# Altium integrated library NSC Switcher.IntLib: 867 symbols (part 19 of 21)
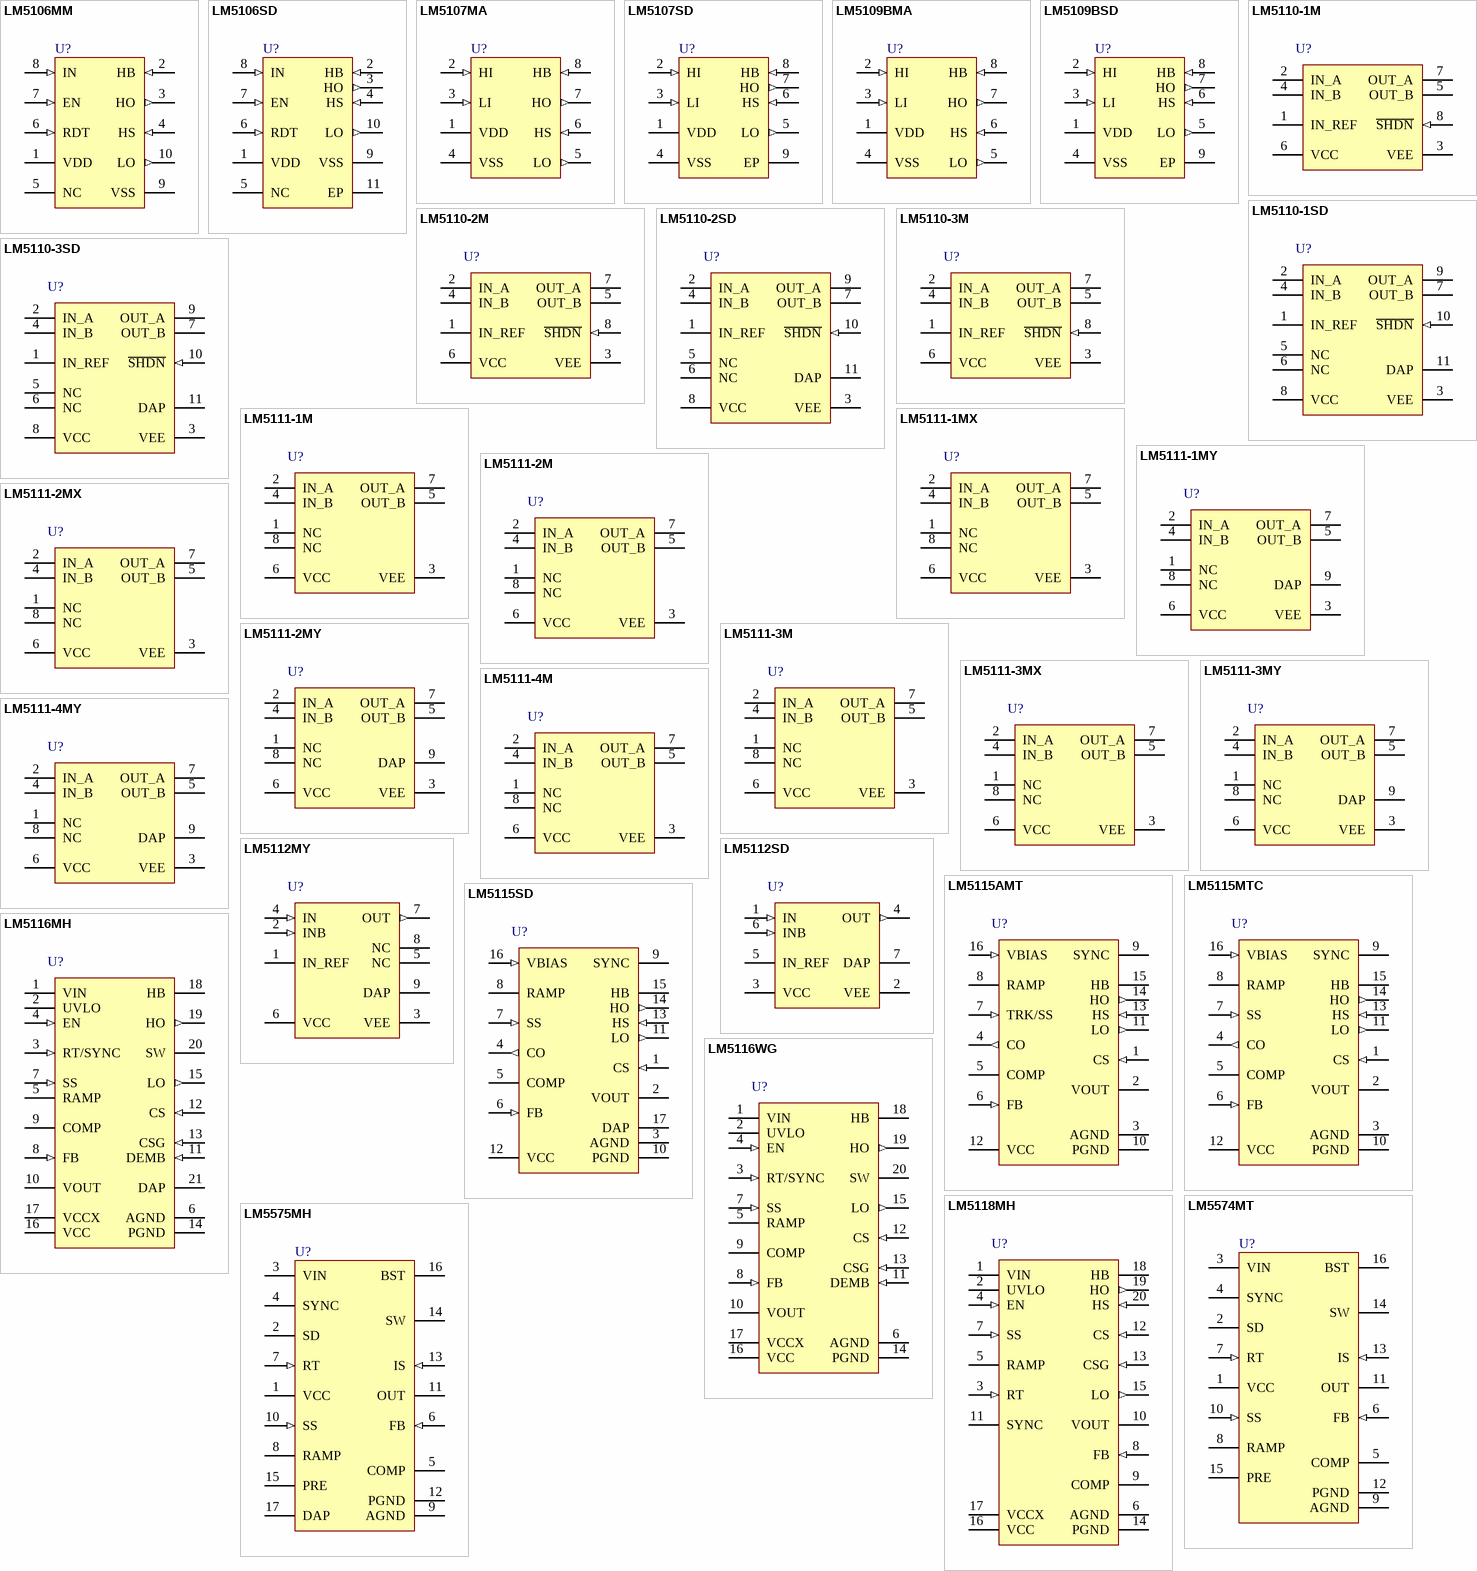
[diagram p44: symbols LM5106MM to LM5575MH]

## LM5574MT
designator U?
SIMPLE SWITCHER 75V, 0.5A Step-Down Switching Regulator; PartNumber: LM5574MT; Manufacturer: National Semiconductor; PackageTopMarking: NSUZXYTT*LM5574*MT; Published: 4-Dec-2008; PackageVersion: revD, Jun-2003; PackageReference: MTC16; Publisher: Altium Limited; PackageDescription: Molded TSSOP, Jedec, 5 x 4.4 x 0.9mm Body, 16 Lead, 0.65mm Pitch; CompType: Switcher; RoHS: O; PinCount: 16; DigiKeyPartNumber: LM5574MT-ND; Code_JEDEC: MO-153-AB; ComponentLink1Description: LM5574 Datasheet; ComponentLink1URL: http://www.national.com/ds/LM/LM5574.pdf; ComponentLink2Description: LM5574 Web Page; ComponentLink2URL: http://www.national.com/pf/LM/LM5574.html; ComponentLink3Description: MTC16 Package Page; ComponentLink3URL: http://www.national.com/packaging/folders/mtc16.html
footprint MTC16_N (TSOP, 16-Leads, Body 5x4.4mm, Pitch 0.65mm, IPC Medium Density)
footprint MTC16_L (TSOP, 16-Leads, Body 5x4.4mm, Pitch 0.65mm, IPC High Density)
footprint MTC16_M (TSOP, 16-Leads, Body 5x4.4mm, Pitch 0.65mm, IPC Low Density)
pins: 1 VCC (power), 2 SD, 3 VIN (power), 4 SYNC, 5 COMP, 6 FB (in), 7 RT (in), 8 RAMP, 9 AGND (power), 10 SS (in), 11 OUT (power), 12 PGND (power), 13 IS (in), 14 SW (power), 15 PRE (oc), 16 BST

## LM5575MH
designator U?
SIMPLE SWITCHER 75V, 1.5A Step-Down Switching Regulator; PartNumber: LM5575MH; Manufacturer: National Semiconductor; PackageTopMarking: NSUZXYTT*LM5575*MH; Published: 4-Dec-2008; PackageVersion: revA, Apr-2003; PackageReference: MXA16A; Publisher: Altium Limited; PackageDescription: Molded TSSOP, Jedec, Exposed Pad, 5.0 x 4.4 x 0.9mm Body,16 Lead, 0.65mm Pitch; CompType: Switcher; RoHS: Y; PinCount: 16; DigiKeyPartNumber: LM5575MH-ND; Code_JEDEC: MO-153-ABT; ComponentLink1Description: LM5575 Datasheet; ComponentLink1URL: http://www.national.com/ds/LM/LM5575.pdf; ComponentLink2Description: LM5575 Web Page; ComponentLink2URL: http://www.national.com/pf/LM/LM5575.html; ComponentLink3Description: MXA16A Package Page; ComponentLink3URL: http://www.national.com/packaging/folders/mxa16a.html
footprint MXA16A_N (TSOP, 16-Leads, Body 5x4.4mm, Pitch 0.65mm, Exposed Pad, IPC Medium Density)
footprint MXA16A_L (TSOP, 16-Leads, Body 5x4.4mm, Pitch 0.65mm, Exposed Pad, IPC High Density)
footprint MXA16A_M (TSOP, 16-Leads, Body 5x4.4mm, Pitch 0.65mm, Exposed Pad, IPC Low Density)
pins: 1 VCC (power), 2 SD, 3 VIN (power), 4 SYNC, 5 COMP, 6 FB (in), 7 RT (in), 8 RAMP, 9 AGND (power), 10 SS (in), 11 OUT (power), 12 PGND (power), 13 IS (in), 14 SW (power), 15 PRE (oc), 16 BST, 17 DAP (power)

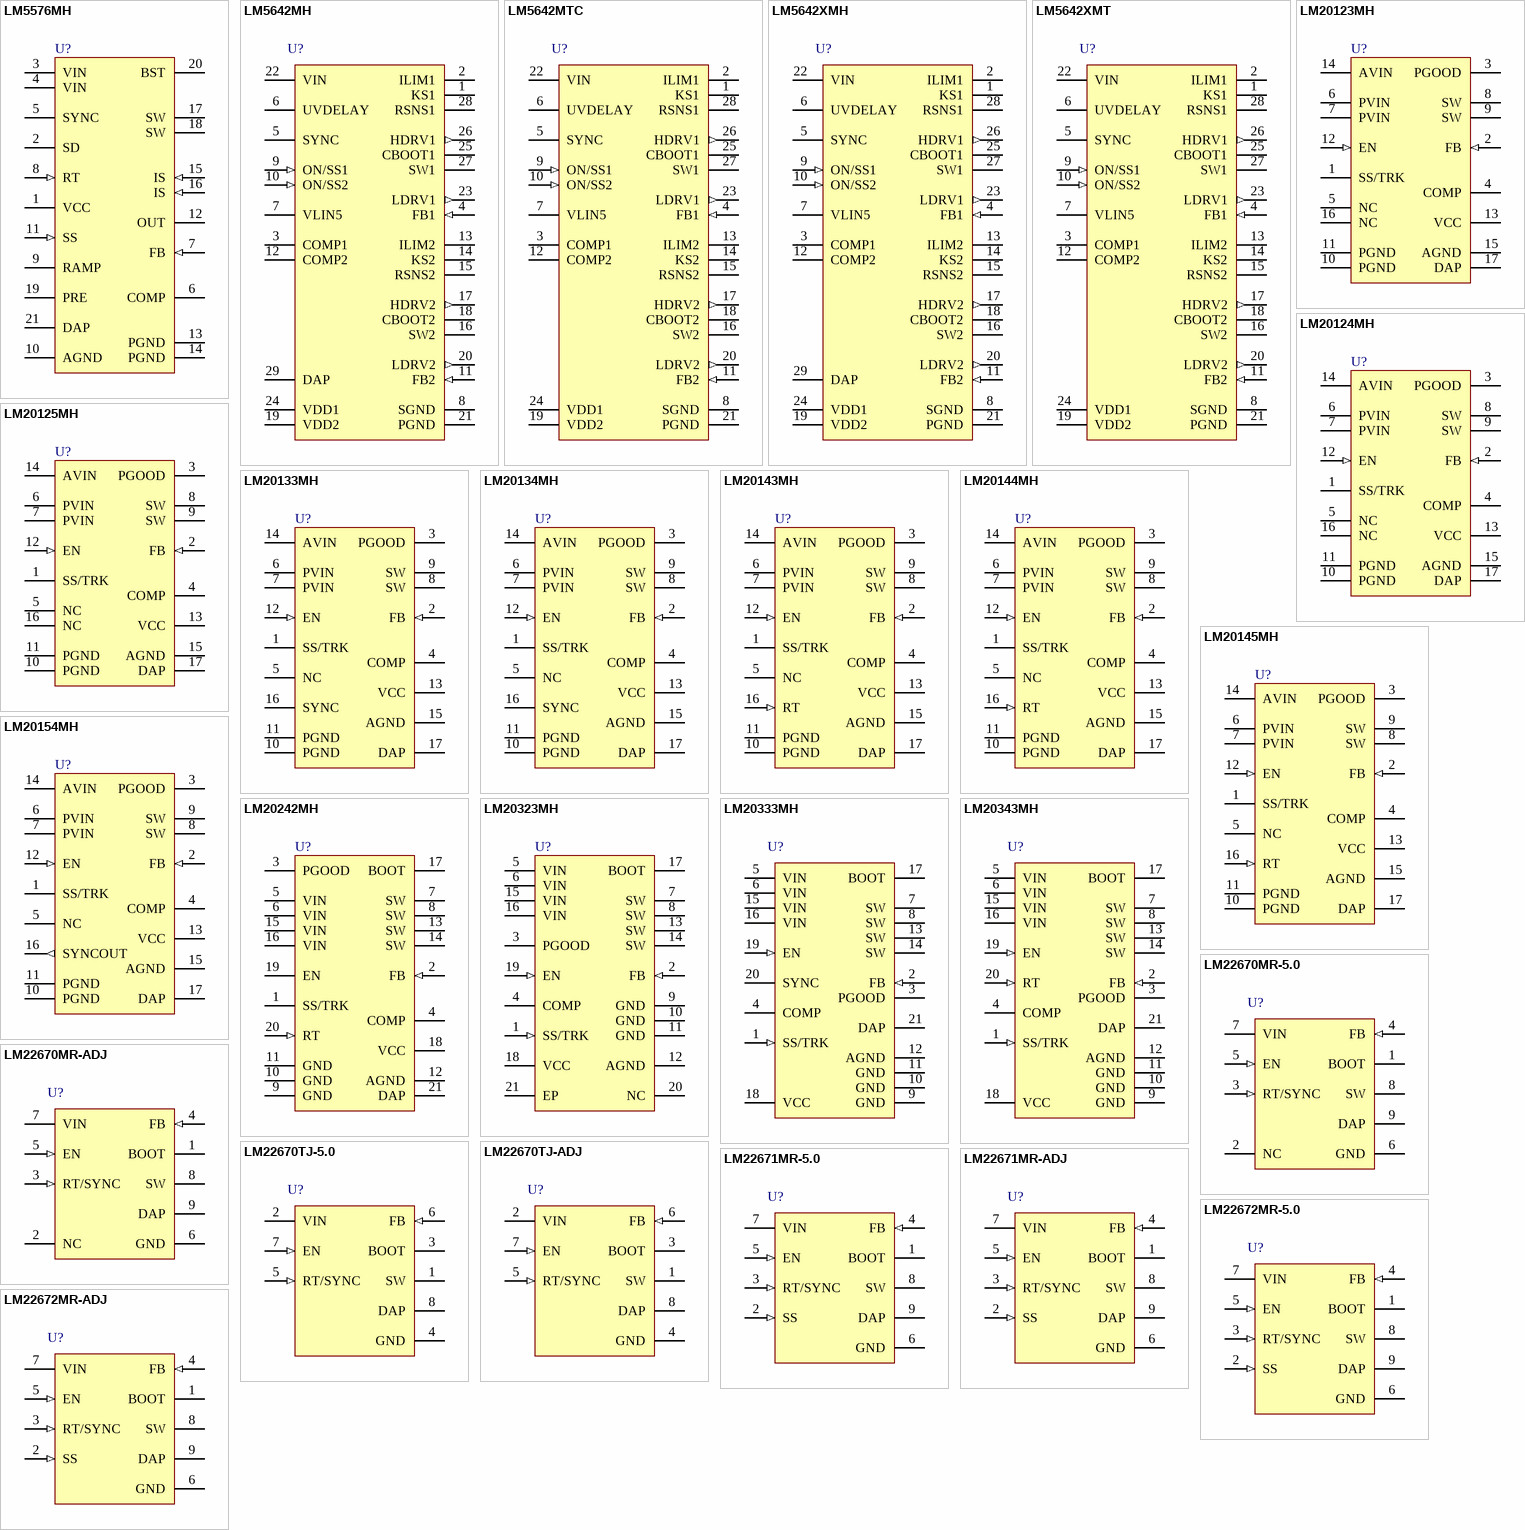
[diagram p22: symbols LM5576MH to LM22672MR-ADJ]

## LM5576MH
designator U?
SIMPLE SWITCHER 75V, 3A Step-Down Switching Regulator; PartNumber: LM5576MH; Manufacturer: National Semiconductor; PackageTopMarking: NSUZXYTT*LM5576*MH; Published: 4-Dec-2008; PackageVersion: revC, Jul-2006; PackageReference: MXA20A; Publisher: Altium Limited; PackageDescription: Molded TSSOP, Jedec, 6.5 x 4.4 x 0.9mm Body, 20 Lead, 0.65mm Pitch, Exposed Pad; CompType: Switcher; RoHS: Y; PinCount: 20; DigiKeyPartNumber: LM5576MH-ND; Code_JEDEC: MO-153-ACT; ComponentLink1Description: LM5576 Datasheet; ComponentLink1URL: http://www.national.com/ds/LM/LM5576.pdf; ComponentLink2Description: LM5576 Web Page; ComponentLink2URL: http://www.national.com/pf/LM/LM5576.html; ComponentLink3Description: MXA20A Package Page; ComponentLink3URL: http://www.national.com/packaging/folders/mxa20a.html
footprint MXA20A_N (TSOP, 20-Leads, Body 6.5x4.4mm, Pitch 0.65mm, Exposed Pad, IPC Medium Density)
footprint MXA20A_L (TSOP, 20-Leads, Body 6.5x4.4mm, Pitch 0.65mm, Exposed Pad, IPC High Density)
footprint MXA20A_M (TSOP, 20-Leads, Body 6.5x4.4mm, Pitch 0.65mm, Exposed Pad, IPC Low Density)
pins: 1 VCC (power), 2 SD, 3 VIN (power), 4 VIN (power), 5 SYNC, 6 COMP, 7 FB (in), 8 RT (in), 9 RAMP, 10 AGND (power), 11 SS (in), 12 OUT (power), 13 PGND (power), 14 PGND (power), 15 IS (in), 16 IS (in), 17 SW (power), 18 SW (power), 19 PRE (oc), 20 BST, 21 DAP (power)

## LM5642MH
designator U?
High Voltage, Dual Synchronous Buck Converter with Oscillator Synchronization; PartNumber: LM5642MH; Manufacturer: National Semiconductor; CompType: Switcher; PackageTopMarking: NSUZXYTT*LM5642*MH; Published: 4-Dec-2008; PackageVersion: revD, Oct-2003; PackageReference: MXA28A; Publisher: Altium Limited; PackageDescription: Molded TSSOP, Jedec, 9.7 x 4.4 x 0.9mm Body, 28 Lead, 0.65mm Pitch, Exposed Pad; RoHS: Y; PinCount: 28; DigiKeyPartNumber: LM5642MH-ND; Code_JEDEC: MO-153-AET; ComponentLink1Description: LM5642 Datasheet; ComponentLink1URL: http://www.national.com/ds/LM/LM5642.pdf; ComponentLink2Description: LM5642 Web Page; ComponentLink2URL: http://www.national.com/pf/LM/LM5642.html; ComponentLink3Description: MXA28A Package Drawing; ComponentLink3URL: http://www.national.com/packaging/folders/mxa28a.html
footprint MXA28A_N (TSOP, 28-Leads, Body 9.7x4.4mm, Pitch 0.65mm, Exposed Pad, IPC Medium Density)
footprint MXA28A_L (TSOP, 28-Leads, Body 9.7x4.4mm, Pitch 0.65mm, Exposed Pad, IPC High Density)
footprint MXA28A_M (TSOP, 28-Leads, Body 9.7x4.4mm, Pitch 0.65mm, Exposed Pad, IPC Low Density)
pins: 1 KS1, 2 ILIM1, 3 COMP1, 4 FB1 (in), 5 SYNC, 6 UVDELAY, 7 VLIN5 (power), 8 SGND (power), 9 ON/SS1 (in), 10 ON/SS2 (in), 11 FB2 (in), 12 COMP2, 13 ILIM2, 14 KS2, 15 RSNS2, 16 SW2 (power), 17 HDRV2 (out), 18 CBOOT2, 19 VDD2 (power), 20 LDRV2 (out), 21 PGND (power), 22 VIN (power), 23 LDRV1 (out), 24 VDD1 (power), 25 CBOOT1, 26 HDRV1 (out), 27 SW1 (power), 28 RSNS1, 29 DAP (power)

## LM5642MTC
designator U?
High Voltage, Dual Synchronous Buck Converter with Oscillator Synchronization; PartNumber: LM5642MTC; Manufacturer: National Semiconductor; CompType: Switcher; PackageTopMarking: NSUZXYTT*LM5642*MTC; Published: 4-Dec-2008; PackageVersion: revD, Jan-2005; PackageReference: MTC28; Publisher: Altium Limited; PackageDescription: Molded TSSOP, Jedec, 9.7 x 4.4 x 0.9mm Body, 28 Lead, 0.65mm Pitch; RoHS: O; PinCount: 28; DigiKeyPartNumber: LM5642MTC-ND; Code_JEDEC: MO-153-AE; ComponentLink1Description: LM5642 Datasheet; ComponentLink1URL: http://www.national.com/ds/LM/LM5642.pdf; ComponentLink2Description: LM5642 Web Page; ComponentLink2URL: http://www.national.com/pf/LM/LM5642.html; ComponentLink3Description: MTC28 Package Drawing; ComponentLink3URL: http://www.national.com/packaging/folders/mtc28.html
footprint MTC28_N (TSOP, 28-Leads, Body 9.7x4.4mm, Pitch 0.65mm, IPC Medium Density)
footprint MTC28_L (TSOP, 28-Leads, Body 9.7x4.4mm, Pitch 0.65mm, IPC High Density)
footprint MTC28_M (TSOP, 28-Leads, Body 9.7x4.4mm, Pitch 0.65mm, IPC Low Density)
pins: 1 KS1, 2 ILIM1, 3 COMP1, 4 FB1 (in), 5 SYNC, 6 UVDELAY, 7 VLIN5 (power), 8 SGND (power), 9 ON/SS1 (in), 10 ON/SS2 (in), 11 FB2 (in), 12 COMP2, 13 ILIM2, 14 KS2, 15 RSNS2, 16 SW2 (power), 17 HDRV2 (out), 18 CBOOT2, 19 VDD2 (power), 20 LDRV2 (out), 21 PGND (power), 22 VIN (power), 23 LDRV1 (out), 24 VDD1 (power), 25 CBOOT1, 26 HDRV1 (out), 27 SW1 (power), 28 RSNS1

## LM5642XMH
designator U?
High Voltage, Dual Synchronous Buck Converter with Oscillator Synchronization; PartNumber: LM5642XMH; Manufacturer: National Semiconductor; CompType: Switcher; PackageTopMarking: NSUZXYTT*LM5642*XMH; Published: 4-Dec-2008; PackageVersion: revD, Oct-2003; PackageReference: MXA28A; Publisher: Altium Limited; PackageDescription: Molded TSSOP, Jedec, 9.7 x 4.4 x 0.9mm Body, 28 Lead, 0.65mm Pitch, Exposed Pad; RoHS: Y; PinCount: 28; DigiKeyPartNumber: LM5642XMH-ND; Code_JEDEC: MO-153-AET; ComponentLink1Description: LM5642X Datasheet; ComponentLink1URL: http://www.national.com/ds/LM/LM5642X.pdf; ComponentLink2Description: LM5642X Web Page; ComponentLink2URL: http://www.national.com/pf/LM/LM5642X.html; ComponentLink3Description: MXA28A Package Drawing; ComponentLink3URL: http://www.national.com/packaging/folders/mxa28a.html
footprint MXA28A_N (TSOP, 28-Leads, Body 9.7x4.4mm, Pitch 0.65mm, Exposed Pad, IPC Medium Density)
footprint MXA28A_L (TSOP, 28-Leads, Body 9.7x4.4mm, Pitch 0.65mm, Exposed Pad, IPC High Density)
footprint MXA28A_M (TSOP, 28-Leads, Body 9.7x4.4mm, Pitch 0.65mm, Exposed Pad, IPC Low Density)
pins: 1 KS1, 2 ILIM1, 3 COMP1, 4 FB1 (in), 5 SYNC, 6 UVDELAY, 7 VLIN5 (power), 8 SGND (power), 9 ON/SS1 (in), 10 ON/SS2 (in), 11 FB2 (in), 12 COMP2, 13 ILIM2, 14 KS2, 15 RSNS2, 16 SW2 (power), 17 HDRV2 (out), 18 CBOOT2, 19 VDD2 (power), 20 LDRV2 (out), 21 PGND (power), 22 VIN (power), 23 LDRV1 (out), 24 VDD1 (power), 25 CBOOT1, 26 HDRV1 (out), 27 SW1 (power), 28 RSNS1, 29 DAP (power)

## LM5642XMT
designator U?
High Voltage, Dual Synchronous Buck Converter with Oscillator Synchronization; PartNumber: LM5642XMT; Manufacturer: National Semiconductor; CompType: Switcher; PackageTopMarking: NSUZXYTT*LM5642*XMT; Published: 4-Dec-2008; PackageVersion: revD, Jan-2005; PackageReference: MTC28; Publisher: Altium Limited; PackageDescription: Molded TSSOP, Jedec, 9.7 x 4.4 x 0.9mm Body, 28 Lead, 0.65mm Pitch; RoHS: Y; PinCount: 28; DigiKeyPartNumber: LM5642XMT-ND; Code_JEDEC: MO-153-AE; ComponentLink1Description: LM5642X Datasheet; ComponentLink1URL: http://www.national.com/ds/LM/LM5642X.pdf; ComponentLink2Description: LM5642X Web Page; ComponentLink2URL: http://www.national.com/pf/LM/LM5642X.html; ComponentLink3Description: MTC28 Package Drawing; ComponentLink3URL: http://www.national.com/packaging/folders/mtc28.html
footprint MTC28_N (TSOP, 28-Leads, Body 9.7x4.4mm, Pitch 0.65mm, IPC Medium Density)
footprint MTC28_L (TSOP, 28-Leads, Body 9.7x4.4mm, Pitch 0.65mm, IPC High Density)
footprint MTC28_M (TSOP, 28-Leads, Body 9.7x4.4mm, Pitch 0.65mm, IPC Low Density)
pins: 1 KS1, 2 ILIM1, 3 COMP1, 4 FB1 (in), 5 SYNC, 6 UVDELAY, 7 VLIN5 (power), 8 SGND (power), 9 ON/SS1 (in), 10 ON/SS2 (in), 11 FB2 (in), 12 COMP2, 13 ILIM2, 14 KS2, 15 RSNS2, 16 SW2 (power), 17 HDRV2 (out), 18 CBOOT2, 19 VDD2 (power), 20 LDRV2 (out), 21 PGND (power), 22 VIN (power), 23 LDRV1 (out), 24 VDD1 (power), 25 CBOOT1, 26 HDRV1 (out), 27 SW1 (power), 28 RSNS1

## LM20123MH
designator U?
3A, 1.5MHz PowerWise Synchronous Buck  Regulator; PartNumber: LM20123MH; Manufacturer: National Semiconductor; CompType: Switcher; PackageTopMarking: NSUZXYTT*20123*MH; Published: 4-Dec-2008; PackageVersion: revA, Apr-2003; PackageReference: MXA16A; Publisher: Altium Limited; PackageDescription: Molded TSSOP, Jedec, Exposed Pad, 5.0 x 4.4 x 0.9mm Body,16 Lead, 0.65mm Pitch; RoHS: Y; PinCount: 16; DigiKeyPartNumber: LM20123MH-ND; Code_JEDEC: MO-153-ABT; ComponentLink1Description: LM20123 Datasheet; ComponentLink1URL: http://www.national.com/ds/LM/LM20123.pdf; ComponentLink2Description: LM20123 Web Page; ComponentLink2URL: http://www.national.com/pf/LM/LM20123.html; ComponentLink3Description: MXA16A Package Page; ComponentLink3URL: http://www.national.com/packaging/folders/mxa16a.html
footprint MXA16A_N (TSOP, 16-Leads, Body 5x4.4mm, Pitch 0.65mm, Exposed Pad, IPC Medium Density)
footprint MXA16A_L (TSOP, 16-Leads, Body 5x4.4mm, Pitch 0.65mm, Exposed Pad, IPC High Density)
footprint MXA16A_M (TSOP, 16-Leads, Body 5x4.4mm, Pitch 0.65mm, Exposed Pad, IPC Low Density)
pins: 1 SS/TRK, 2 FB (in), 3 PGOOD (oc), 4 COMP, 5 NC, 6 PVIN (power), 7 PVIN (power), 8 SW (power), 9 SW (power), 10 PGND (power), 11 PGND (power), 12 EN (in), 13 VCC (power), 14 AVIN (power), 15 AGND (power), 16 NC, 17 DAP (power)

## LM20124MH
designator U?
4A, 1MHz PowerWise Synchronous Buck  Regulator; PartNumber: LM20124MH; Manufacturer: National Semiconductor; CompType: Switcher; PackageTopMarking: NSUZXYTT*20124*MH; Published: 4-Dec-2008; PackageVersion: revA, Apr-2003; PackageReference: MXA16A; Publisher: Altium Limited; PackageDescription: Molded TSSOP, Jedec, Exposed Pad, 5.0 x 4.4 x 0.9mm Body,16 Lead, 0.65mm Pitch; RoHS: Y; PinCount: 16; DigiKeyPartNumber: LM20124MH-ND; Code_JEDEC: MO-153-ABT; ComponentLink1Description: LM20124 Datasheet; ComponentLink1URL: http://www.national.com/ds/LM/LM20124.pdf; ComponentLink2Description: LM20124 Web Page; ComponentLink2URL: http://www.national.com/pf/LM/LM20124.html; ComponentLink3Description: MXA16A Package Page; ComponentLink3URL: http://www.national.com/packaging/folders/mxa16a.html
footprint MXA16A_N (TSOP, 16-Leads, Body 5x4.4mm, Pitch 0.65mm, Exposed Pad, IPC Medium Density)
footprint MXA16A_L (TSOP, 16-Leads, Body 5x4.4mm, Pitch 0.65mm, Exposed Pad, IPC High Density)
footprint MXA16A_M (TSOP, 16-Leads, Body 5x4.4mm, Pitch 0.65mm, Exposed Pad, IPC Low Density)
pins: 1 SS/TRK, 2 FB (in), 3 PGOOD (oc), 4 COMP, 5 NC, 6 PVIN (power), 7 PVIN (power), 8 SW (power), 9 SW (power), 10 PGND (power), 11 PGND (power), 12 EN (in), 13 VCC (power), 14 AVIN (power), 15 AGND (power), 16 NC, 17 DAP (power)

## LM20125MH
designator U?
5A, 500kHz PowerWise Synchronous Buck  Regulator; PartNumber: LM20125MH; Manufacturer: National Semiconductor; CompType: Switcher; PackageTopMarking: NSUZXYTT*20125*MH; Published: 4-Dec-2008; PackageVersion: revA, Apr-2003; PackageReference: MXA16A; Publisher: Altium Limited; PackageDescription: Molded TSSOP, Jedec, Exposed Pad, 5.0 x 4.4 x 0.9mm Body,16 Lead, 0.65mm Pitch; RoHS: Y; PinCount: 16; DigiKeyPartNumber: LM20125MH-ND; Code_JEDEC: MO-153-ABT; ComponentLink1Description: LM20125 Datasheet; ComponentLink1URL: http://www.national.com/ds/LM/LM20125.pdf; ComponentLink2Description: LM20125 Web Page; ComponentLink2URL: http://www.national.com/pf/LM/LM20125.html; ComponentLink3Description: MXA16A Package Page; ComponentLink3URL: http://www.national.com/packaging/folders/mxa16a.html
footprint MXA16A_N (TSOP, 16-Leads, Body 5x4.4mm, Pitch 0.65mm, Exposed Pad, IPC Medium Density)
footprint MXA16A_L (TSOP, 16-Leads, Body 5x4.4mm, Pitch 0.65mm, Exposed Pad, IPC High Density)
footprint MXA16A_M (TSOP, 16-Leads, Body 5x4.4mm, Pitch 0.65mm, Exposed Pad, IPC Low Density)
pins: 1 SS/TRK, 2 FB (in), 3 PGOOD (oc), 4 COMP, 5 NC, 6 PVIN (power), 7 PVIN (power), 8 SW (power), 9 SW (power), 10 PGND (power), 11 PGND (power), 12 EN (in), 13 VCC (power), 14 AVIN (power), 15 AGND (power), 16 NC, 17 DAP (power)

## LM20133MH
designator U?
3A, PowerWise Synchronous Buck Regulator with Input Synchronization; PartNumber: LM20133MH; Manufacturer: National Semiconductor; CompType: Switcher; PackageTopMarking: NSUZXYTT*20133*MH; Published: 4-Dec-2008; PackageVersion: revA, Apr-2003; PackageReference: MXA16A; Publisher: Altium Limited; PackageDescription: Molded TSSOP, Jedec, Exposed Pad, 5.0 x 4.4 x 0.9mm Body,16 Lead, 0.65mm Pitch; RoHS: Y; PinCount: 16; DigiKeyPartNumber: LM20133MH-ND; Code_JEDEC: MO-153-ABT; ComponentLink1Description: LM20133 Datasheet; ComponentLink1URL: http://www.national.com/ds/LM/LM20133.pdf; ComponentLink2Description: LM20133 Web Page; ComponentLink2URL: http://www.national.com/pf/LM/LM20133.html; ComponentLink3Description: MXA16A Package Page; ComponentLink3URL: http://www.national.com/packaging/folders/mxa16a.html
footprint MXA16A_N (TSOP, 16-Leads, Body 5x4.4mm, Pitch 0.65mm, Exposed Pad, IPC Medium Density)
footprint MXA16A_L (TSOP, 16-Leads, Body 5x4.4mm, Pitch 0.65mm, Exposed Pad, IPC High Density)
footprint MXA16A_M (TSOP, 16-Leads, Body 5x4.4mm, Pitch 0.65mm, Exposed Pad, IPC Low Density)
pins: 1 SS/TRK, 2 FB (in), 3 PGOOD (oc), 4 COMP, 5 NC, 6 PVIN (power), 7 PVIN (power), 8 SW (power), 9 SW (power), 10 PGND (power), 11 PGND (power), 12 EN (in), 13 VCC (power), 14 AVIN (power), 15 AGND (power), 16 SYNC, 17 DAP (power)

## LM20134MH
designator U?
4A, PowerWise Synchronous Buck  Regulator with Input Synchronization; PartNumber: LM20134MH; Manufacturer: National Semiconductor; CompType: Switcher; PackageTopMarking: NSUZXYTT*20134*MH; Published: 4-Dec-2008; PackageVersion: revA, Apr-2003; PackageReference: MXA16A; Publisher: Altium Limited; PackageDescription: Molded TSSOP, Jedec, Exposed Pad, 5.0 x 4.4 x 0.9mm Body,16 Lead, 0.65mm Pitch; RoHS: Y; PinCount: 16; DigiKeyPartNumber: LM20134MH-ND; Code_JEDEC: MO-153-ABT; ComponentLink1Description: LM20134 Datasheet; ComponentLink1URL: http://www.national.com/ds/LM/LM20134.pdf; ComponentLink2Description: LM20134 Web Page; ComponentLink2URL: http://www.national.com/pf/LM/LM20134.html; ComponentLink3Description: MXA16A Package Page; ComponentLink3URL: http://www.national.com/packaging/folders/mxa16a.html
footprint MXA16A_N (TSOP, 16-Leads, Body 5x4.4mm, Pitch 0.65mm, Exposed Pad, IPC Medium Density)
footprint MXA16A_L (TSOP, 16-Leads, Body 5x4.4mm, Pitch 0.65mm, Exposed Pad, IPC High Density)
footprint MXA16A_M (TSOP, 16-Leads, Body 5x4.4mm, Pitch 0.65mm, Exposed Pad, IPC Low Density)
pins: 1 SS/TRK, 2 FB (in), 3 PGOOD (oc), 4 COMP, 5 NC, 6 PVIN (power), 7 PVIN (power), 8 SW (power), 9 SW (power), 10 PGND (power), 11 PGND (power), 12 EN (in), 13 VCC (power), 14 AVIN (power), 15 AGND (power), 16 SYNC, 17 DAP (power)

## LM20143MH
designator U?
3A, PowerWise Adjustable Frequency Synchronous Buck  Regulator; PartNumber: LM20143MH; Manufacturer: National Semiconductor; CompType: Switcher; PackageTopMarking: NSUZXYTT*20143*MH; Published: 4-Dec-2008; PackageVersion: revA, Apr-2003; PackageReference: MXA16A; Publisher: Altium Limited; PackageDescription: Molded TSSOP, Jedec, Exposed Pad, 5.0 x 4.4 x 0.9mm Body,16 Lead, 0.65mm Pitch; RoHS: Y; PinCount: 16; DigiKeyPartNumber: LM20143MH-ND; Code_JEDEC: MO-153-ABT; ComponentLink1Description: LM20143 Datasheet; ComponentLink1URL: http://www.national.com/ds/LM/LM20143.pdf; ComponentLink2Description: LM20143 Web Page; ComponentLink2URL: http://www.national.com/pf/LM/LM20143.html; ComponentLink3Description: MXA16A Package Page; ComponentLink3URL: http://www.national.com/packaging/folders/mxa16a.html
footprint MXA16A_N (TSOP, 16-Leads, Body 5x4.4mm, Pitch 0.65mm, Exposed Pad, IPC Medium Density)
footprint MXA16A_L (TSOP, 16-Leads, Body 5x4.4mm, Pitch 0.65mm, Exposed Pad, IPC High Density)
footprint MXA16A_M (TSOP, 16-Leads, Body 5x4.4mm, Pitch 0.65mm, Exposed Pad, IPC Low Density)
pins: 1 SS/TRK, 2 FB (in), 3 PGOOD (oc), 4 COMP, 5 NC, 6 PVIN (power), 7 PVIN (power), 8 SW (power), 9 SW (power), 10 PGND (power), 11 PGND (power), 12 EN (in), 13 VCC (power), 14 AVIN (power), 15 AGND (power), 16 RT (in), 17 DAP (power)

## LM20144MH
designator U?
4A, PowerWise Adjustable Frequency Synchronous Buck  Regulator; PartNumber: LM20144MH; Manufacturer: National Semiconductor; CompType: Switcher; PackageTopMarking: NSUZXYTT*20144*MH; Published: 4-Dec-2008; PackageVersion: revA, Apr-2003; PackageReference: MXA16A; Publisher: Altium Limited; PackageDescription: Molded TSSOP, Jedec, Exposed Pad, 5.0 x 4.4 x 0.9mm Body,16 Lead, 0.65mm Pitch; RoHS: Y; PinCount: 16; DigiKeyPartNumber: LM20144MH-ND; Code_JEDEC: MO-153-ABT; ComponentLink1Description: LM20144 Datasheet; ComponentLink1URL: http://www.national.com/ds/LM/LM20144.pdf; ComponentLink2Description: LM20144 Web Page; ComponentLink2URL: http://www.national.com/pf/LM/LM20144.html; ComponentLink3Description: MXA16A Package Page; ComponentLink3URL: http://www.national.com/packaging/folders/mxa16a.html
footprint MXA16A_N (TSOP, 16-Leads, Body 5x4.4mm, Pitch 0.65mm, Exposed Pad, IPC Medium Density)
footprint MXA16A_L (TSOP, 16-Leads, Body 5x4.4mm, Pitch 0.65mm, Exposed Pad, IPC High Density)
footprint MXA16A_M (TSOP, 16-Leads, Body 5x4.4mm, Pitch 0.65mm, Exposed Pad, IPC Low Density)
pins: 1 SS/TRK, 2 FB (in), 3 PGOOD (oc), 4 COMP, 5 NC, 6 PVIN (power), 7 PVIN (power), 8 SW (power), 9 SW (power), 10 PGND (power), 11 PGND (power), 12 EN (in), 13 VCC (power), 14 AVIN (power), 15 AGND (power), 16 RT (in), 17 DAP (power)

## LM20145MH
designator U?
5A, PowerWise Adjustable Frequency Synchronous Buck  Regulator; PartNumber: LM20145MH; Manufacturer: National Semiconductor; CompType: Switcher; PackageTopMarking: NSUZXYTT*20145*MH; Published: 4-Dec-2008; PackageVersion: revA, Apr-2003; PackageReference: MXA16A; Publisher: Altium Limited; PackageDescription: Molded TSSOP, Jedec, Exposed Pad, 5.0 x 4.4 x 0.9mm Body,16 Lead, 0.65mm Pitch; RoHS: Y; PinCount: 16; DigiKeyPartNumber: LM20145MH-ND; Code_JEDEC: MO-153-ABT; ComponentLink1Description: LM20145 Datasheet; ComponentLink1URL: http://www.national.com/ds/LM/LM20145.pdf; ComponentLink2Description: LM20145 Web Page; ComponentLink2URL: http://www.national.com/pf/LM/LM20145.html; ComponentLink3Description: MXA16A Package Page; ComponentLink3URL: http://www.national.com/packaging/folders/mxa16a.html
footprint MXA16A_N (TSOP, 16-Leads, Body 5x4.4mm, Pitch 0.65mm, Exposed Pad, IPC Medium Density)
footprint MXA16A_L (TSOP, 16-Leads, Body 5x4.4mm, Pitch 0.65mm, Exposed Pad, IPC High Density)
footprint MXA16A_M (TSOP, 16-Leads, Body 5x4.4mm, Pitch 0.65mm, Exposed Pad, IPC Low Density)
pins: 1 SS/TRK, 2 FB (in), 3 PGOOD (oc), 4 COMP, 5 NC, 6 PVIN (power), 7 PVIN (power), 8 SW (power), 9 SW (power), 10 PGND (power), 11 PGND (power), 12 EN (in), 13 VCC (power), 14 AVIN (power), 15 AGND (power), 16 RT (in), 17 DAP (power)

## LM20154MH
designator U?
4A, 1MHz PowerWise Synchronous Buck  Regulator with SYNCOUT; PartNumber: LM20154MH; Manufacturer: National Semiconductor; CompType: Switcher; PackageTopMarking: NSUZXYTT*20154*MH; Published: 4-Dec-2008; PackageVersion: revA, Apr-2003; PackageReference: MXA16A; Publisher: Altium Limited; PackageDescription: Molded TSSOP, Jedec, Exposed Pad, 5.0 x 4.4 x 0.9mm Body,16 Lead, 0.65mm Pitch; RoHS: Y; PinCount: 16; DigiKeyPartNumber: LM20154MH-ND; Code_JEDEC: MO-153-ABT; ComponentLink1Description: LM20154 Datasheet; ComponentLink1URL: http://www.national.com/ds/LM/LM20154.pdf; ComponentLink2Description: LM20154 Web Page; ComponentLink2URL: http://www.national.com/pf/LM/LM20154.html; ComponentLink3Description: MXA16A Package Page; ComponentLink3URL: http://www.national.com/packaging/folders/mxa16a.html
footprint MXA16A_N (TSOP, 16-Leads, Body 5x4.4mm, Pitch 0.65mm, Exposed Pad, IPC Medium Density)
footprint MXA16A_L (TSOP, 16-Leads, Body 5x4.4mm, Pitch 0.65mm, Exposed Pad, IPC High Density)
footprint MXA16A_M (TSOP, 16-Leads, Body 5x4.4mm, Pitch 0.65mm, Exposed Pad, IPC Low Density)
pins: 1 SS/TRK, 2 FB (in), 3 PGOOD (oc), 4 COMP, 5 NC, 6 PVIN (power), 7 PVIN (power), 8 SW (power), 9 SW (power), 10 PGND (power), 11 PGND (power), 12 EN (in), 13 VCC (power), 14 AVIN (power), 15 AGND (power), 16 SYNCOUT (out), 17 DAP (power)

## LM20242MH
designator U?
36V, 2A PowerWise Adjustable Frequency Synchronous Buck Regulator; PartNumber: LM20242MH; Manufacturer: National Semiconductor; CompType: Switcher; PackageTopMarking: NSUZXYTT*20242*MH; Published: 4-Dec-2008; PackageVersion: revC, Jul-2006; PackageReference: MXA20A; Publisher: Altium Limited; PackageDescription: Molded TSSOP, Jedec, 6.5 x 4.4 x 0.9mm Body, 20 Lead, 0.65mm Pitch, Exposed Pad; RoHS: Y; PinCount: 20; DigiKeyPartNumber: LM20242MH-ND; Code_JEDEC: MO-153-ACT; ComponentLink1Description: LM20242 Datasheet; ComponentLink1URL: http://www.national.com/ds/LM/LM20242.pdf; ComponentLink2Description: LM20242 Web Page; ComponentLink2URL: http://www.national.com/pf/LM/LM20242.html; ComponentLink3Description: MXA20A Package Page; ComponentLink3URL: http://www.national.com/packaging/folders/mxa20a.html
footprint MXA20A_N (TSOP, 20-Leads, Body 6.5x4.4mm, Pitch 0.65mm, Exposed Pad, IPC Medium Density)
footprint MXA20A_L (TSOP, 20-Leads, Body 6.5x4.4mm, Pitch 0.65mm, Exposed Pad, IPC High Density)
footprint MXA20A_M (TSOP, 20-Leads, Body 6.5x4.4mm, Pitch 0.65mm, Exposed Pad, IPC Low Density)
pins: 1 SS/TRK, 2 FB (in), 3 PGOOD (oc), 4 COMP, 5 VIN (power), 6 VIN (power), 7 SW (power), 8 SW (power), 9 GND (power), 10 GND (power), 11 GND (power), 12 AGND (power), 13 SW (power), 14 SW (power), 15 VIN (power), 16 VIN (power), 17 BOOT, 18 VCC (power), 19 EN, 20 RT (in), 21 DAP (power)

## LM20323MH
designator U?
36V, 3A PowerWise 500 kHz Synchronous Buck Regulator Adjustable Frequency Synchronous Buck Regulator; PartNumber: LM20323MH; Manufacturer: National Semiconductor; CompType: Switcher; PackageTopMarking: NSUZXYTT*20323MH; Published: 4-Dec-2008; PackageVersion: revC, Jul-2006; PackageReference: MXA20A; Publisher: Altium Limited; PackageDescription: Molded TSSOP, Jedec, 6.5 x 4.4 x 0.9mm Body, 20 Lead, 0.65mm Pitch, Exposed Pad; RoHS: Y; PinCount: 20; DigiKeyPartNumber: LM20323MH-ND; Code_JEDEC: MO-153-ACT; ComponentLink1Description: LM20323 Datasheet; ComponentLink1URL: http://www.national.com/ds/LM/LM20323.pdf; ComponentLink2Description: LM20323 Web Page; ComponentLink2URL: http://www.national.com/pf/LM/LM20323.html; ComponentLink3Description: MXA20A Package Drawing; ComponentLink3URL: http://www.national.com/packaging/folders/mxa20a.html
footprint MXA20A_N (TSOP, 20-Leads, Body 6.5x4.4mm, Pitch 0.65mm, Exposed Pad, IPC Medium Density)
footprint MXA20A_L (TSOP, 20-Leads, Body 6.5x4.4mm, Pitch 0.65mm, Exposed Pad, IPC High Density)
footprint MXA20A_M (TSOP, 20-Leads, Body 6.5x4.4mm, Pitch 0.65mm, Exposed Pad, IPC Low Density)
pins: 1 SS/TRK (in), 2 FB (in), 3 PGOOD (oc), 4 COMP, 5 VIN (power), 6 VIN (power), 7 SW (power), 8 SW (power), 9 GND (power), 10 GND (power), 11 GND (power), 12 AGND (power), 13 SW (power), 14 SW (power), 15 VIN (power), 16 VIN (power), 17 BOOT, 18 VCC (power), 19 EN (in), 20 NC, 21 EP (power)

## LM20333MH
designator U?
36V, 3A PowerWise Synchronous Buck Regulator with Frequency Synchronization; PartNumber: LM20333MH; Manufacturer: National Semiconductor; CompType: Switcher; PackageTopMarking: NSUZXYTT*20333MH; Published: 4-Dec-2008; PackageVersion: revC, Jul-2006; PackageReference: MXA20A; Publisher: Altium Limited; PackageDescription: Molded TSSOP, Jedec, 6.5 x 4.4 x 0.9mm Body, 20 Lead, 0.65mm Pitch, Exposed Pad; RoHS: Y; PinCount: 20; DigiKeyPartNumber: LM20333MH-ND; Code_JEDEC: MO-153-ACT; ComponentLink1Description: LM20333 Datasheet; ComponentLink1URL: http://www.national.com/ds/LM/LM20333.pdf; ComponentLink2Description: LM20333 Web Page; ComponentLink2URL: http://www.national.com/pf/LM/LM20333.html; ComponentLink3Description: MXA20A Package Drawing; ComponentLink3URL: http://www.national.com/packaging/folders/mxa20a.html
footprint MXA20A_N (TSOP, 20-Leads, Body 6.5x4.4mm, Pitch 0.65mm, Exposed Pad, IPC Medium Density)
footprint MXA20A_L (TSOP, 20-Leads, Body 6.5x4.4mm, Pitch 0.65mm, Exposed Pad, IPC High Density)
footprint MXA20A_M (TSOP, 20-Leads, Body 6.5x4.4mm, Pitch 0.65mm, Exposed Pad, IPC Low Density)
pins: 1 SS/TRK (in), 2 FB (in), 3 PGOOD (oc), 4 COMP, 5 VIN (power), 6 VIN (power), 7 SW (power), 8 SW (power), 9 GND (power), 10 GND (power), 11 GND (power), 12 AGND (power), 13 SW (power), 14 SW (power), 15 VIN (power), 16 VIN (power), 17 BOOT, 18 VCC (power), 19 EN (in), 20 SYNC, 21 DAP (power)

## LM20343MH
designator U?
36V, 3A Adjustable Frequency Synchronous Buck Regulator; PartNumber: LM20343MH; Manufacturer: National Semiconductor; CompType: Switcher; PackageTopMarking: NSUZXYTT*20343MH; Published: 4-Dec-2008; PackageVersion: revC, Jul-2006; PackageReference: MXA20A; Publisher: Altium Limited; PackageDescription: Molded TSSOP, Jedec, 6.5 x 4.4 x 0.9mm Body, 20 Lead, 0.65mm Pitch, Exposed Pad; RoHS: Y; PinCount: 20; DigiKeyPartNumber: LM20343MH-ND; Code_JEDEC: MO-153-ACT; ComponentLink1Description: LM20343 Datasheet; ComponentLink1URL: http://www.national.com/ds/LM/LM20343.pdf; ComponentLink2Description: LM20343 Web Page; ComponentLink2URL: http://www.national.com/pf/LM/LM20343.html; ComponentLink3Description: MXA20A Package Drawing; ComponentLink3URL: http://www.national.com/packaging/folders/mxa20a.html
footprint MXA20A_N (TSOP, 20-Leads, Body 6.5x4.4mm, Pitch 0.65mm, Exposed Pad, IPC Medium Density)
footprint MXA20A_L (TSOP, 20-Leads, Body 6.5x4.4mm, Pitch 0.65mm, Exposed Pad, IPC High Density)
footprint MXA20A_M (TSOP, 20-Leads, Body 6.5x4.4mm, Pitch 0.65mm, Exposed Pad, IPC Low Density)
pins: 1 SS/TRK (in), 2 FB (in), 3 PGOOD (oc), 4 COMP, 5 VIN (power), 6 VIN (power), 7 SW (power), 8 SW (power), 9 GND (power), 10 GND (power), 11 GND (power), 12 AGND (power), 13 SW (power), 14 SW (power), 15 VIN (power), 16 VIN (power), 17 BOOT, 18 VCC (power), 19 EN (in), 20 RT (in), 21 DAP (power)

## LM22670MR-5.0
designator U?
3A SIMPLE SWITCHER, Step-Down Voltage Regulator with Synchronization or Adjustable Switching Frequency; PartNumber: LM22670MR-5.0; Manufacturer: National Semiconductor; PackageTopMarking: NSXYTT*L22670*5.0; Published: 4-Dec-2008; PackageVersion: revB, Dec-2007; PackageReference: MRA08B; Publisher: Altium Limited; PackageDescription: Molded, PSOP .193 x .154 x .058in, 8 Lead, .050in Pitch, Large DAP; CompType: Switcher; RoHS: Y; PinCount: 8; DigiKeyPartNumber: LM22670MR-5.0-ND; Code_JEDEC: MS-012-AA; ComponentLink1Description: LM22670 Datasheet; ComponentLink1URL: http://www.national.com/ds/LM/LM22670.pdf; ComponentLink2Description: LM22670 Web Page; ComponentLink2URL: http://www.national.com/pf/LM/LM22670.html; ComponentLink3Description: MRA08B Package Drawing; ComponentLink3URL: http://www.national.com/packaging/folders/mra08b.html
footprint MRA08B_N (SOIC, 8-Leads, Body 4.9x3.9mm, Pitch 1.27mm, Exposed Pad, IPC Medium Density)
footprint MRA08B_L (SOIC, 8-Leads, Body 4.9x3.9mm, Pitch 1.27mm, Exposed Pad, IPC High Density)
footprint MRA08B_M (SOIC, 8-Leads, Body 4.9x3.9mm, Pitch 1.27mm, Exposed Pad, IPC Low Density)
pins: 1 BOOT, 2 NC, 3 RT/SYNC (in), 4 FB (in), 5 EN (in), 6 GND (power), 7 VIN (power), 8 SW (power), 9 DAP (power)

## LM22670MR-ADJ
designator U?
3A SIMPLE SWITCHER, Step-Down Voltage Regulator with Synchronization or Adjustable Switching Frequency; PartNumber: LM22670MR-ADJ; Manufacturer: National Semiconductor; PackageTopMarking: NSXYTT*L22670*ADJ; Published: 4-Dec-2008; PackageVersion: revB, Dec-2007; PackageReference: MRA08B; Publisher: Altium Limited; PackageDescription: Molded, PSOP .193 x .154 x .058in, 8 Lead, .050in Pitch, Large DAP; CompType: Switcher; RoHS: Y; PinCount: 8; DigiKeyPartNumber: LM22670MR-ADJ-ND; Code_JEDEC: MS-012-AA; ComponentLink1Description: LM22670 Datasheet; ComponentLink1URL: http://www.national.com/ds/LM/LM22670.pdf; ComponentLink2Description: LM22670 Web Page; ComponentLink2URL: http://www.national.com/pf/LM/LM22670.html; ComponentLink3Description: MRA08B Package Drawing; ComponentLink3URL: http://www.national.com/packaging/folders/mra08b.html
footprint MRA08B_N (SOIC, 8-Leads, Body 4.9x3.9mm, Pitch 1.27mm, Exposed Pad, IPC Medium Density)
footprint MRA08B_L (SOIC, 8-Leads, Body 4.9x3.9mm, Pitch 1.27mm, Exposed Pad, IPC High Density)
footprint MRA08B_M (SOIC, 8-Leads, Body 4.9x3.9mm, Pitch 1.27mm, Exposed Pad, IPC Low Density)
pins: 1 BOOT, 2 NC, 3 RT/SYNC (in), 4 FB (in), 5 EN (in), 6 GND (power), 7 VIN (power), 8 SW (power), 9 DAP (power)

## LM22670TJ-5.0
designator U?
3A SIMPLE SWITCHER, Step-Down Voltage Regulator with Synchronization or Adjustable Switching Frequency; PartNumber: LM22670TJ-5.0; Manufacturer: National Semiconductor; PackageTopMarking: NSUZXYTTE#*LM22670*TJ-5.0; Published: 4-Dec-2008; PackageVersion: revC, Jan-2008; PackageReference: TJ7A; Publisher: Altium Limited; PackageDescription: Thin TO-263, Molded, 9.85 x 10.16 x 2mm Body, 7 Lead, 1.7mm Pitch, Surface Mount; CompType: Switcher; RoHS: Y; PinCount: 7; DigiKeyPartNumber: LM22670TJ-5.0-ND; ComponentLink1Description: LM22670 Datasheet; ComponentLink1URL: http://www.national.com/ds/LM/LM22670.pdf; ComponentLink2Description: LM22670 Web Page; ComponentLink2URL: http://www.national.com/pf/LM/LM22670.html; ComponentLink3Description: TJ7A Package Drawing; ComponentLink3URL: http://www.national.com/packaging/folders/tj7a.html
footprint TJ7A_N (D2-PAK, 8-Leads, Body 9.9x10.2mm, Pitch 1.27mm, Lead Span 14mm, IPC Medium Density)
footprint TJ7A_L (D2-PAK, 8-Leads, Body 9.9x10.2mm, Pitch 1.27mm, Lead Span 14mm, IPC High Density)
footprint TJ7A_M (D2-PAK, 8-Leads, Body 9.9x10.2mm, Pitch 1.27mm, Lead Span 14mm, IPC Low Density)
pins: 1 SW (power), 2 VIN (power), 3 BOOT, 4 GND (power), 5 RT/SYNC (in), 6 FB (in), 7 EN (in), 8 DAP (power)

## LM22670TJ-ADJ
designator U?
3A SIMPLE SWITCHER, Step-Down Voltage Regulator with Synchronization or Adjustable Switching Frequency; PartNumber: LM22670TJ-ADJ; Manufacturer: National Semiconductor; PackageTopMarking: NSUZXYTTE#*LM22670*TJ-ADJ; Published: 4-Dec-2008; PackageVersion: revC, Jan-2008; PackageReference: TJ7A; Publisher: Altium Limited; PackageDescription: Thin TO-263, Molded, 9.85 x 10.16 x 2mm Body, 7 Lead, 1.7mm Pitch, Surface Mount; CompType: Switcher; RoHS: Y; PinCount: 7; DigiKeyPartNumber: LM22670TJ-ADJ-ND; ComponentLink1Description: LM22670 Datasheet; ComponentLink1URL: http://www.national.com/ds/LM/LM22670.pdf; ComponentLink2Description: LM22670 Web Page; ComponentLink2URL: http://www.national.com/pf/LM/LM22670.html; ComponentLink3Description: TJ7A Package Drawing; ComponentLink3URL: http://www.national.com/packaging/folders/tj7a.html
footprint TJ7A_N (D2-PAK, 8-Leads, Body 9.9x10.2mm, Pitch 1.27mm, Lead Span 14mm, IPC Medium Density)
footprint TJ7A_L (D2-PAK, 8-Leads, Body 9.9x10.2mm, Pitch 1.27mm, Lead Span 14mm, IPC High Density)
footprint TJ7A_M (D2-PAK, 8-Leads, Body 9.9x10.2mm, Pitch 1.27mm, Lead Span 14mm, IPC Low Density)
pins: 1 SW (power), 2 VIN (power), 3 BOOT, 4 GND (power), 5 RT/SYNC (in), 6 FB (in), 7 EN (in), 8 DAP (power)

## LM22671MR-5.0
designator U?
500mA SIMPLE SWITCHER, Step-Down Voltage Regulator with Features; PartNumber: LM22671MR-5.0; Manufacturer: National Semiconductor; PackageTopMarking: NSXYTT*L22671*5.0; Published: 4-Dec-2008; PackageVersion: revB, Dec-2007; PackageReference: MRA08B; Publisher: Altium Limited; PackageDescription: Molded, PSOP .193 x .154 x .058in, 8 Lead, .050in Pitch, Large DAP; CompType: Switcher; RoHS: Y; PinCount: 8; DigiKeyPartNumber: LM22671MR-5.0-ND; Code_JEDEC: MS-012-AA; ComponentLink1Description: LM22671 Datasheet; ComponentLink1URL: http://www.national.com/ds/LM/LM22671.pdf; ComponentLink2Description: LM22671 Web Page; ComponentLink2URL: http://www.national.com/pf/LM/LM22671.html; ComponentLink3Description: MRA08B Package Drawing; ComponentLink3URL: http://www.national.com/packaging/folders/mra08b.html
footprint MRA08B_N (SOIC, 8-Leads, Body 4.9x3.9mm, Pitch 1.27mm, Exposed Pad, IPC Medium Density)
footprint MRA08B_L (SOIC, 8-Leads, Body 4.9x3.9mm, Pitch 1.27mm, Exposed Pad, IPC High Density)
footprint MRA08B_M (SOIC, 8-Leads, Body 4.9x3.9mm, Pitch 1.27mm, Exposed Pad, IPC Low Density)
pins: 1 BOOT, 2 SS (in), 3 RT/SYNC (in), 4 FB (in), 5 EN (in), 6 GND (power), 7 VIN (power), 8 SW (power), 9 DAP (power)

## LM22671MR-ADJ
designator U?
500mA SIMPLE SWITCHER, Step-Down Voltage Regulator with Features; PartNumber: LM22671MR-ADJ; Manufacturer: National Semiconductor; PackageTopMarking: NSXYTT*L22671*ADJ; Published: 4-Dec-2008; PackageVersion: revB, Dec-2007; PackageReference: MRA08B; Publisher: Altium Limited; PackageDescription: Molded, PSOP .193 x .154 x .058in, 8 Lead, .050in Pitch, Large DAP; CompType: Switcher; RoHS: Y; PinCount: 8; DigiKeyPartNumber: LM22671MR-ADJ-ND; Code_JEDEC: MS-012-AA; ComponentLink1Description: LM22671 Datasheet; ComponentLink1URL: http://www.national.com/ds/LM/LM22671.pdf; ComponentLink2Description: LM22671 Web Page; ComponentLink2URL: http://www.national.com/pf/LM/LM22671.html; ComponentLink3Description: MRA08B Package Drawing; ComponentLink3URL: http://www.national.com/packaging/folders/mra08b.html
footprint MRA08B_N (SOIC, 8-Leads, Body 4.9x3.9mm, Pitch 1.27mm, Exposed Pad, IPC Medium Density)
footprint MRA08B_L (SOIC, 8-Leads, Body 4.9x3.9mm, Pitch 1.27mm, Exposed Pad, IPC High Density)
footprint MRA08B_M (SOIC, 8-Leads, Body 4.9x3.9mm, Pitch 1.27mm, Exposed Pad, IPC Low Density)
pins: 1 BOOT, 2 SS (in), 3 RT/SYNC (in), 4 FB (in), 5 EN (in), 6 GND (power), 7 VIN (power), 8 SW (power), 9 DAP (power)

## LM22672MR-5.0
designator U?
1A SIMPLE SWITCHER, Step-Down Voltage Regulator with Features; PartNumber: LM22672MR-5.0; Manufacturer: National Semiconductor; PackageTopMarking: NSXYTT*L22672*5.0; Published: 4-Dec-2008; PackageVersion: revB, Dec-2007; PackageReference: MRA08B; Publisher: Altium Limited; PackageDescription: Molded, PSOP .193 x .154 x .058in, 8 Lead, .050in Pitch, Large DAP; CompType: Switcher; RoHS: Y; PinCount: 8; Code_JEDEC: MS-012-AA; ComponentLink1Description: LM22672 Datasheet; ComponentLink1URL: http://www.national.com/ds/LM/LM22672.pdf; ComponentLink2Description: LM22672 Web Page; ComponentLink2URL: http://www.national.com/pf/LM/LM22672.html; ComponentLink3Description: MRA08B Package Drawing; ComponentLink3URL: http://www.national.com/packaging/folders/mra08b.html
footprint MRA08B_N (SOIC, 8-Leads, Body 4.9x3.9mm, Pitch 1.27mm, Exposed Pad, IPC Medium Density)
footprint MRA08B_L (SOIC, 8-Leads, Body 4.9x3.9mm, Pitch 1.27mm, Exposed Pad, IPC High Density)
footprint MRA08B_M (SOIC, 8-Leads, Body 4.9x3.9mm, Pitch 1.27mm, Exposed Pad, IPC Low Density)
pins: 1 BOOT, 2 SS (in), 3 RT/SYNC (in), 4 FB (in), 5 EN (in), 6 GND (power), 7 VIN (power), 8 SW (power), 9 DAP (power)

## LM22672MR-ADJ
designator U?
1A SIMPLE SWITCHER, Step-Down Voltage Regulator with Features; PartNumber: LM22672MR-ADJ; Manufacturer: National Semiconductor; PackageTopMarking: NSXYTT*L22672*ADJ; Published: 4-Dec-2008; PackageVersion: revB, Dec-2007; PackageReference: MRA08B; Publisher: Altium Limited; PackageDescription: Molded, PSOP .193 x .154 x .058in, 8 Lead, .050in Pitch, Large DAP; CompType: Switcher; RoHS: Y; PinCount: 8; DigiKeyPartNumber: LM22672MR-ADJ-ND; Code_JEDEC: MS-012-AA; ComponentLink1Description: LM22672 Datasheet; ComponentLink1URL: http://www.national.com/ds/LM/LM22672.pdf; ComponentLink2Description: LM22672 Web Page; ComponentLink2URL: http://www.national.com/pf/LM/LM22672.html; ComponentLink3Description: MRA08B Package Drawing; ComponentLink3URL: http://www.national.com/packaging/folders/mra08b.html
footprint MRA08B_N (SOIC, 8-Leads, Body 4.9x3.9mm, Pitch 1.27mm, Exposed Pad, IPC Medium Density)
footprint MRA08B_L (SOIC, 8-Leads, Body 4.9x3.9mm, Pitch 1.27mm, Exposed Pad, IPC High Density)
footprint MRA08B_M (SOIC, 8-Leads, Body 4.9x3.9mm, Pitch 1.27mm, Exposed Pad, IPC Low Density)
pins: 1 BOOT, 2 SS (in), 3 RT/SYNC (in), 4 FB (in), 5 EN (in), 6 GND (power), 7 VIN (power), 8 SW (power), 9 DAP (power)

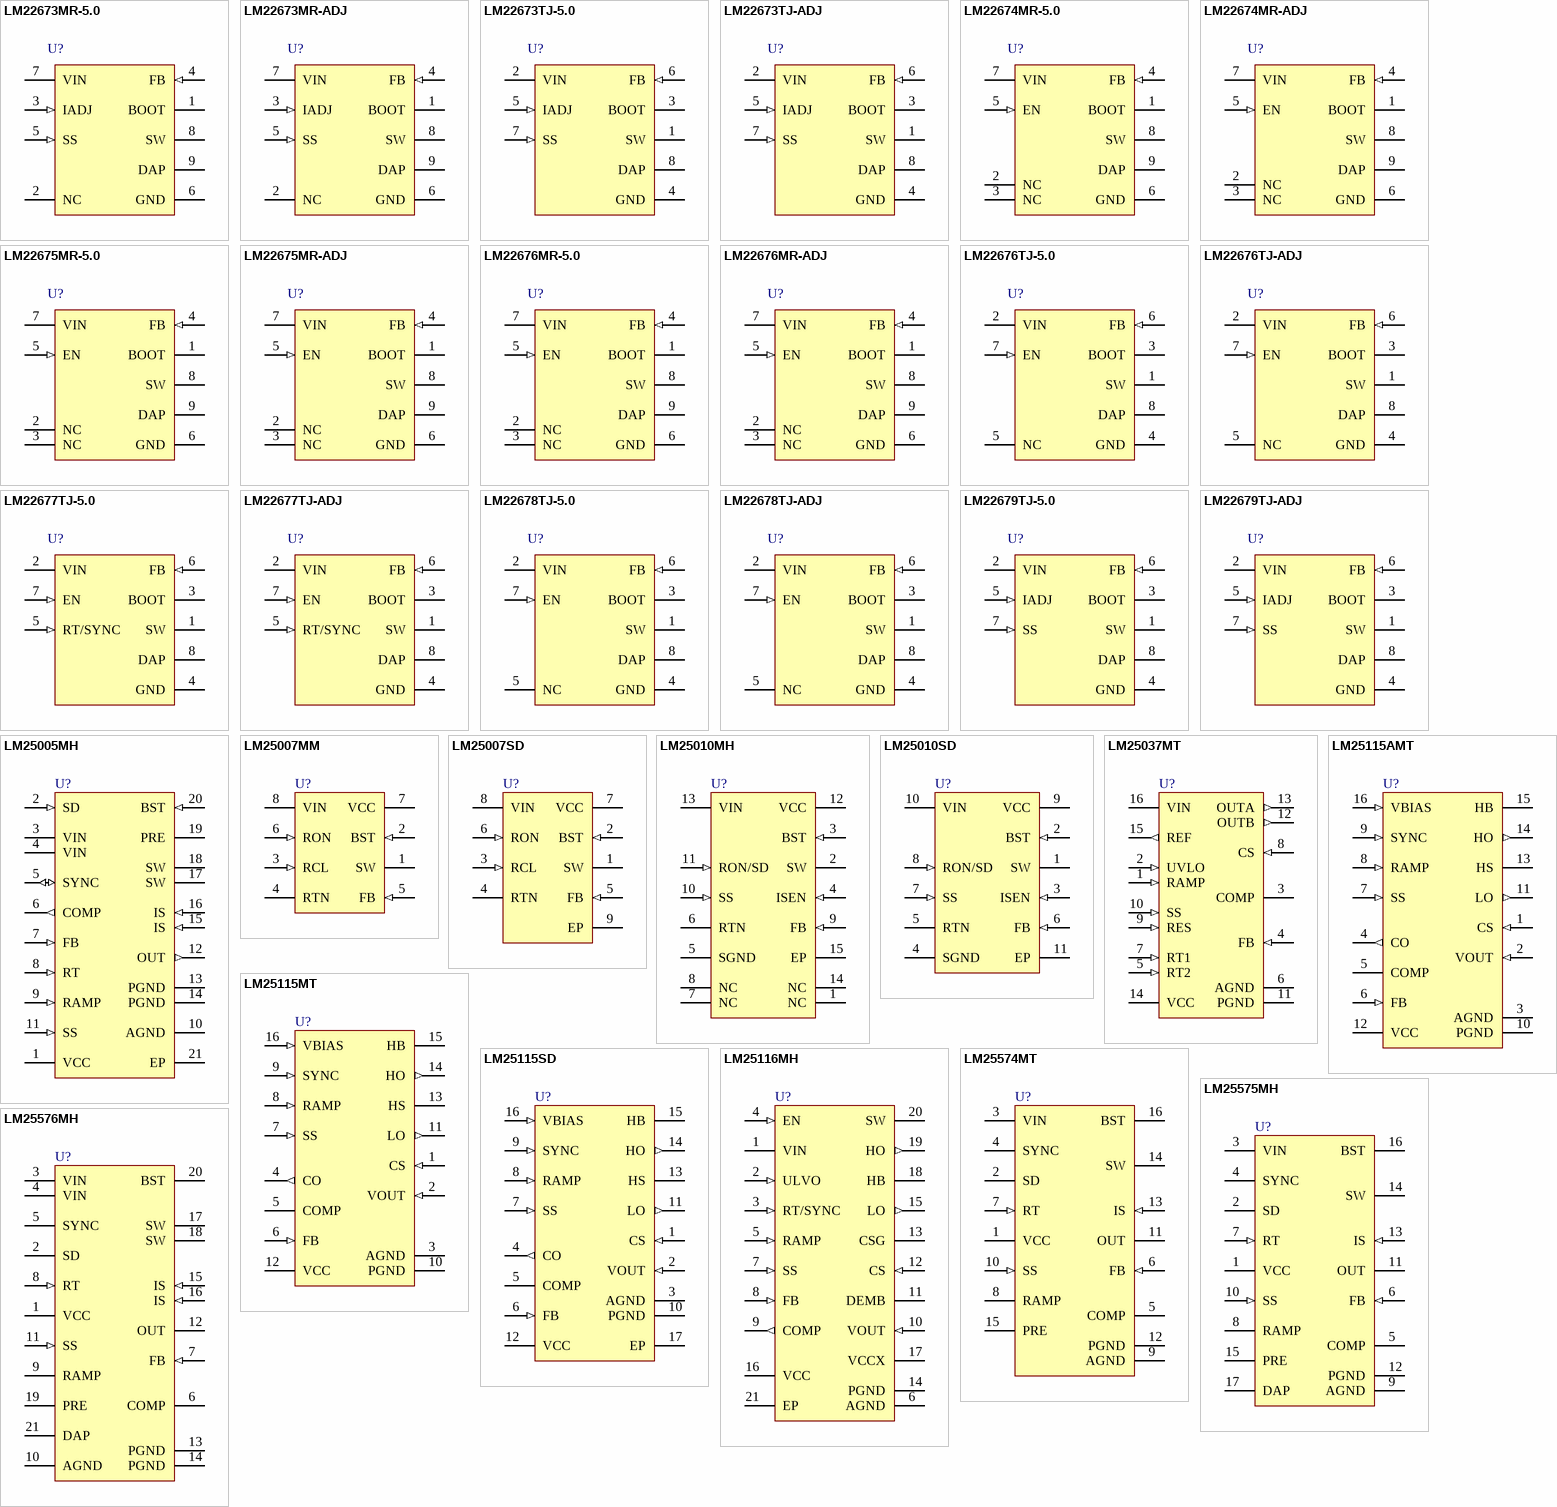
[diagram p23: symbols LM22673MR-5.0 to LM25576MH]

## LM22673MR-5.0
designator U?
3A SIMPLE SWITCHER, Step-Down Voltage Regulator with Adjustable Soft-Start and Current Limit; PartNumber: LM22673MR-5.0; Manufacturer: National Semiconductor; PackageTopMarking: NSXYTT*L22673*5.0; Published: 4-Dec-2008; PackageVersion: revB, Dec-2007; PackageReference: MRA08B; Publisher: Altium Limited; PackageDescription: Molded, PSOP .193 x .154 x .058in, 8 Lead, .050in Pitch, Large DAP; CompType: Switcher; RoHS: Y; PinCount: 8; DigiKeyPartNumber: LM22673MR-5.0-ND; Code_JEDEC: MS-012-AA; ComponentLink1Description: LM22673 Datasheet; ComponentLink1URL: http://www.national.com/ds/LM/LM22673.pdf; ComponentLink2Description: LM22673 Web Page; ComponentLink2URL: http://www.national.com/pf/LM/LM22673.html; ComponentLink3Description: MRA08B Package Drawing; ComponentLink3URL: http://www.national.com/packaging/folders/mra08b.html
footprint MRA08B_N (SOIC, 8-Leads, Body 4.9x3.9mm, Pitch 1.27mm, Exposed Pad, IPC Medium Density)
footprint MRA08B_L (SOIC, 8-Leads, Body 4.9x3.9mm, Pitch 1.27mm, Exposed Pad, IPC High Density)
footprint MRA08B_M (SOIC, 8-Leads, Body 4.9x3.9mm, Pitch 1.27mm, Exposed Pad, IPC Low Density)
pins: 1 BOOT, 2 NC, 3 IADJ (in), 4 FB (in), 5 SS (in), 6 GND (power), 7 VIN (power), 8 SW (power), 9 DAP (power)

## LM22673MR-ADJ
designator U?
3A SIMPLE SWITCHER, Step-Down Voltage Regulator with Adjustable Soft-Start and Current Limit; PartNumber: LM22673MR-ADJ; Manufacturer: National Semiconductor; PackageTopMarking: NSXYTT*L22673*ADJ; Published: 4-Dec-2008; PackageVersion: revB, Dec-2007; PackageReference: MRA08B; Publisher: Altium Limited; PackageDescription: Molded, PSOP .193 x .154 x .058in, 8 Lead, .050in Pitch, Large DAP; CompType: Switcher; RoHS: Y; PinCount: 8; DigiKeyPartNumber: LM22673MR-ADJ-ND; Code_JEDEC: MS-012-AA; ComponentLink1Description: LM22673 Datasheet; ComponentLink1URL: http://www.national.com/ds/LM/LM22673.pdf; ComponentLink2Description: LM22673 Web Page; ComponentLink2URL: http://www.national.com/pf/LM/LM22673.html; ComponentLink3Description: MRA08B Package Drawing; ComponentLink3URL: http://www.national.com/packaging/folders/mra08b.html
footprint MRA08B_N (SOIC, 8-Leads, Body 4.9x3.9mm, Pitch 1.27mm, Exposed Pad, IPC Medium Density)
footprint MRA08B_L (SOIC, 8-Leads, Body 4.9x3.9mm, Pitch 1.27mm, Exposed Pad, IPC High Density)
footprint MRA08B_M (SOIC, 8-Leads, Body 4.9x3.9mm, Pitch 1.27mm, Exposed Pad, IPC Low Density)
pins: 1 BOOT, 2 NC, 3 IADJ (in), 4 FB (in), 5 SS (in), 6 GND (power), 7 VIN (power), 8 SW (power), 9 DAP (power)

## LM22673TJ-5.0
designator U?
3A SIMPLE SWITCHER, Step-Down Voltage Regulator with Adjustable Soft-Start and Current Limit; PartNumber: LM22673TJ-5.0; Manufacturer: National Semiconductor; PackageTopMarking: NSUZXYTTE#*LM22673*TJ-5.0; Published: 4-Dec-2008; PackageVersion: revC, Jan-2008; PackageReference: TJ7A; Publisher: Altium Limited; PackageDescription: Thin TO-263, Molded, 9.85 x 10.16 x 2mm Body, 7 Lead, 1.7mm Pitch, Surface Mount; CompType: Switcher; RoHS: Y; PinCount: 7; DigiKeyPartNumber: LM22673TJ-5.0-ND; ComponentLink1Description: LM22673 Datasheet; ComponentLink1URL: http://www.national.com/ds/LM/LM22673.pdf; ComponentLink2Description: LM22673 Web Page; ComponentLink2URL: http://www.national.com/pf/LM/LM22673.html; ComponentLink3Description: TJ7A Package Drawing; ComponentLink3URL: http://www.national.com/packaging/folders/tj7a.html
footprint TJ7A_N (D2-PAK, 8-Leads, Body 9.9x10.2mm, Pitch 1.27mm, Lead Span 14mm, IPC Medium Density)
footprint TJ7A_L (D2-PAK, 8-Leads, Body 9.9x10.2mm, Pitch 1.27mm, Lead Span 14mm, IPC High Density)
footprint TJ7A_M (D2-PAK, 8-Leads, Body 9.9x10.2mm, Pitch 1.27mm, Lead Span 14mm, IPC Low Density)
pins: 1 SW (power), 2 VIN (power), 3 BOOT, 4 GND (power), 5 IADJ (in), 6 FB (in), 7 SS (in), 8 DAP (power)

## LM22673TJ-ADJ
designator U?
3A SIMPLE SWITCHER, Step-Down Voltage Regulator with Adjustable Soft-Start and Current Limit; PartNumber: LM22673TJ-ADJ; Manufacturer: National Semiconductor; PackageTopMarking: NSUZXYTTE#*LM22673*TJ-ADJ; Published: 4-Dec-2008; PackageVersion: revC, Jan-2008; PackageReference: TJ7A; Publisher: Altium Limited; PackageDescription: Thin TO-263, Molded, 9.85 x 10.16 x 2mm Body, 7 Lead, 1.7mm Pitch, Surface Mount; CompType: Switcher; RoHS: Y; PinCount: 7; DigiKeyPartNumber: LM22673TJ-ADJ-ND; ComponentLink1Description: LM22673 Datasheet; ComponentLink1URL: http://www.national.com/ds/LM/LM22673.pdf; ComponentLink2Description: LM22673 Web Page; ComponentLink2URL: http://www.national.com/pf/LM/LM22673.html; ComponentLink3Description: TJ7A Package Drawing; ComponentLink3URL: http://www.national.com/packaging/folders/tj7a.html
footprint TJ7A_N (D2-PAK, 8-Leads, Body 9.9x10.2mm, Pitch 1.27mm, Lead Span 14mm, IPC Medium Density)
footprint TJ7A_L (D2-PAK, 8-Leads, Body 9.9x10.2mm, Pitch 1.27mm, Lead Span 14mm, IPC High Density)
footprint TJ7A_M (D2-PAK, 8-Leads, Body 9.9x10.2mm, Pitch 1.27mm, Lead Span 14mm, IPC Low Density)
pins: 1 SW (power), 2 VIN (power), 3 BOOT, 4 GND (power), 5 IADJ (in), 6 FB (in), 7 SS (in), 8 DAP (power)

## LM22674MR-5.0
designator U?
500mA SIMPLE SWITCHER, Step-Down Voltage Regulator with Precision Enable; PartNumber: LM22674MR-5.0; Manufacturer: National Semiconductor; PackageTopMarking: NSXYTT*L22674*5.0; Published: 4-Dec-2008; PackageVersion: revB, Dec-2007; PackageReference: MRA08B; Publisher: Altium Limited; PackageDescription: Molded, PSOP .193 x .154 x .058in, 8 Lead, .050in Pitch, Large DAP; CompType: Switcher; RoHS: Y; PinCount: 8; DigiKeyPartNumber: LM22674MR-5.0-ND; Code_JEDEC: MS-012-AA; ComponentLink1Description: LM22674 Datasheet; ComponentLink1URL: http://www.national.com/ds/LM/LM22674.pdf; ComponentLink2Description: LM22674 Web Page; ComponentLink2URL: http://www.national.com/pf/LM/LM22674.html; ComponentLink3Description: MRA08B Package Drawing; ComponentLink3URL: http://www.national.com/packaging/folders/mra08b.html
footprint MRA08B_N (SOIC, 8-Leads, Body 4.9x3.9mm, Pitch 1.27mm, Exposed Pad, IPC Medium Density)
footprint MRA08B_L (SOIC, 8-Leads, Body 4.9x3.9mm, Pitch 1.27mm, Exposed Pad, IPC High Density)
footprint MRA08B_M (SOIC, 8-Leads, Body 4.9x3.9mm, Pitch 1.27mm, Exposed Pad, IPC Low Density)
pins: 1 BOOT, 2 NC, 3 NC, 4 FB (in), 5 EN (in), 6 GND (power), 7 VIN (power), 8 SW (power), 9 DAP (power)

## LM22674MR-ADJ
designator U?
500mA SIMPLE SWITCHER, Step-Down Voltage Regulator with Precision Enable; PartNumber: LM22674MR-ADJ; Manufacturer: National Semiconductor; PackageTopMarking: NSXYTT*L22674*ADJ; Published: 4-Dec-2008; PackageVersion: revB, Dec-2007; PackageReference: MRA08B; Publisher: Altium Limited; PackageDescription: Molded, PSOP .193 x .154 x .058in, 8 Lead, .050in Pitch, Large DAP; CompType: Switcher; RoHS: Y; PinCount: 8; DigiKeyPartNumber: LM22674MR-ADJ-ND; Code_JEDEC: MS-012-AA; ComponentLink1Description: LM22674 Datasheet; ComponentLink1URL: http://www.national.com/ds/LM/LM22674.pdf; ComponentLink2Description: LM22674 Web Page; ComponentLink2URL: http://www.national.com/pf/LM/LM22674.html; ComponentLink3Description: MRA08B Package Drawing; ComponentLink3URL: http://www.national.com/packaging/folders/mra08b.html
footprint MRA08B_N (SOIC, 8-Leads, Body 4.9x3.9mm, Pitch 1.27mm, Exposed Pad, IPC Medium Density)
footprint MRA08B_L (SOIC, 8-Leads, Body 4.9x3.9mm, Pitch 1.27mm, Exposed Pad, IPC High Density)
footprint MRA08B_M (SOIC, 8-Leads, Body 4.9x3.9mm, Pitch 1.27mm, Exposed Pad, IPC Low Density)
pins: 1 BOOT, 2 NC, 3 NC, 4 FB (in), 5 EN (in), 6 GND (power), 7 VIN (power), 8 SW (power), 9 DAP (power)

## LM22675MR-5.0
designator U?
1A SIMPLE SWITCHER, Step-Down Voltage Regulator with Precision Enable; PartNumber: LM22675MR-5.0; Manufacturer: National Semiconductor; PackageTopMarking: NSXYTT*L22675*5.0; Published: 4-Dec-2008; PackageVersion: revB, Dec-2007; PackageReference: MRA08B; Publisher: Altium Limited; PackageDescription: Molded, PSOP .193 x .154 x .058in, 8 Lead, .050in Pitch, Large DAP; CompType: Switcher; RoHS: Y; PinCount: 8; DigiKeyPartNumber: LM22675MR-5.0-ND; Code_JEDEC: MS-012-AA; ComponentLink1Description: LM22675 Datasheet; ComponentLink1URL: http://www.national.com/ds/LM/LM22675.pdf; ComponentLink2Description: LM22675 Web Page; ComponentLink2URL: http://www.national.com/pf/LM/LM22675.html; ComponentLink3Description: MRA08B Package Drawing; ComponentLink3URL: http://www.national.com/packaging/folders/mra08b.html
footprint MRA08B_N (SOIC, 8-Leads, Body 4.9x3.9mm, Pitch 1.27mm, Exposed Pad, IPC Medium Density)
footprint MRA08B_L (SOIC, 8-Leads, Body 4.9x3.9mm, Pitch 1.27mm, Exposed Pad, IPC High Density)
footprint MRA08B_M (SOIC, 8-Leads, Body 4.9x3.9mm, Pitch 1.27mm, Exposed Pad, IPC Low Density)
pins: 1 BOOT, 2 NC, 3 NC, 4 FB (in), 5 EN (in), 6 GND (power), 7 VIN (power), 8 SW (power), 9 DAP (power)

## LM22675MR-ADJ
designator U?
1A SIMPLE SWITCHER, Step-Down Voltage Regulator with Precision Enable; PartNumber: LM22675MR-ADJ; Manufacturer: National Semiconductor; PackageTopMarking: NSXYTT*L22675*ADJ; Published: 4-Dec-2008; PackageVersion: revB, Dec-2007; PackageReference: MRA08B; Publisher: Altium Limited; PackageDescription: Molded, PSOP .193 x .154 x .058in, 8 Lead, .050in Pitch, Large DAP; CompType: Switcher; RoHS: Y; PinCount: 8; DigiKeyPartNumber: LM22675MR-ADJ-ND; Code_JEDEC: MS-012-AA; ComponentLink1Description: LM22675 Datasheet; ComponentLink1URL: http://www.national.com/ds/LM/LM22675.pdf; ComponentLink2Description: LM22675 Web Page; ComponentLink2URL: http://www.national.com/pf/LM/LM22675.html; ComponentLink3Description: MRA08B Package Drawing; ComponentLink3URL: http://www.national.com/packaging/folders/mra08b.html
footprint MRA08B_N (SOIC, 8-Leads, Body 4.9x3.9mm, Pitch 1.27mm, Exposed Pad, IPC Medium Density)
footprint MRA08B_L (SOIC, 8-Leads, Body 4.9x3.9mm, Pitch 1.27mm, Exposed Pad, IPC High Density)
footprint MRA08B_M (SOIC, 8-Leads, Body 4.9x3.9mm, Pitch 1.27mm, Exposed Pad, IPC Low Density)
pins: 1 BOOT, 2 NC, 3 NC, 4 FB (in), 5 EN (in), 6 GND (power), 7 VIN (power), 8 SW (power), 9 DAP (power)

## LM22676MR-5.0
designator U?
3A SIMPLE SWITCHER, Step-Down Voltage Regulator with Precision Enable; PartNumber: LM22676MR-5.0; Manufacturer: National Semiconductor; PackageTopMarking: NSXYTT*L22676*5.0; Published: 4-Dec-2008; PackageVersion: revB, Dec-2007; PackageReference: MRA08B; Publisher: Altium Limited; PackageDescription: Molded, PSOP .193 x .154 x .058in, 8 Lead, .050in Pitch, Large DAP; CompType: Switcher; RoHS: Y; PinCount: 8; DigiKeyPartNumber: LM22676MR-5.0-ND; Code_JEDEC: MS-012-AA; ComponentLink1Description: LM22676 Datasheet; ComponentLink1URL: http://www.national.com/ds/LM/LM22676.pdf; ComponentLink2Description: LM22676 Web Page; ComponentLink2URL: http://www.national.com/pf/LM/LM22676.html; ComponentLink3Description: MRA08B Package Drawing; ComponentLink3URL: http://www.national.com/packaging/folders/mra08b.html
footprint MRA08B_N (SOIC, 8-Leads, Body 4.9x3.9mm, Pitch 1.27mm, Exposed Pad, IPC Medium Density)
footprint MRA08B_L (SOIC, 8-Leads, Body 4.9x3.9mm, Pitch 1.27mm, Exposed Pad, IPC High Density)
footprint MRA08B_M (SOIC, 8-Leads, Body 4.9x3.9mm, Pitch 1.27mm, Exposed Pad, IPC Low Density)
pins: 1 BOOT, 2 NC, 3 NC, 4 FB (in), 5 EN (in), 6 GND (power), 7 VIN (power), 8 SW (power), 9 DAP (power)